# EAGLE library part OSTTE060104 (library OSTTE060104)
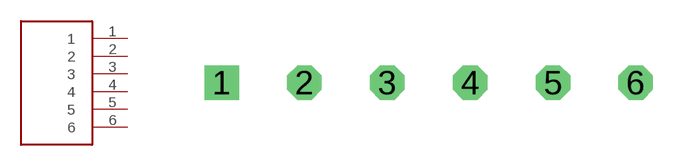
[diagram p0: symbol with the pads of OSTTE060104; footprint OSTTE060104]

Designator prefix J

## OSTTE060104  [OSTTE060104]
1  1
2  2
3  3
4  4
5  5
6  6

## Footprint OSTTE060104 (pad centres in mm)
drill 0.95 square: 1 0,0
drill 0.95 octagon: 2 3.5,0; 3 7,0; 4 10.5,0; 5 14,0; 6 17.5,0